# Altium schematic symbol library fpga_xilinx_ultrascale.SchLib: 7 symbols (part 3 of 6)
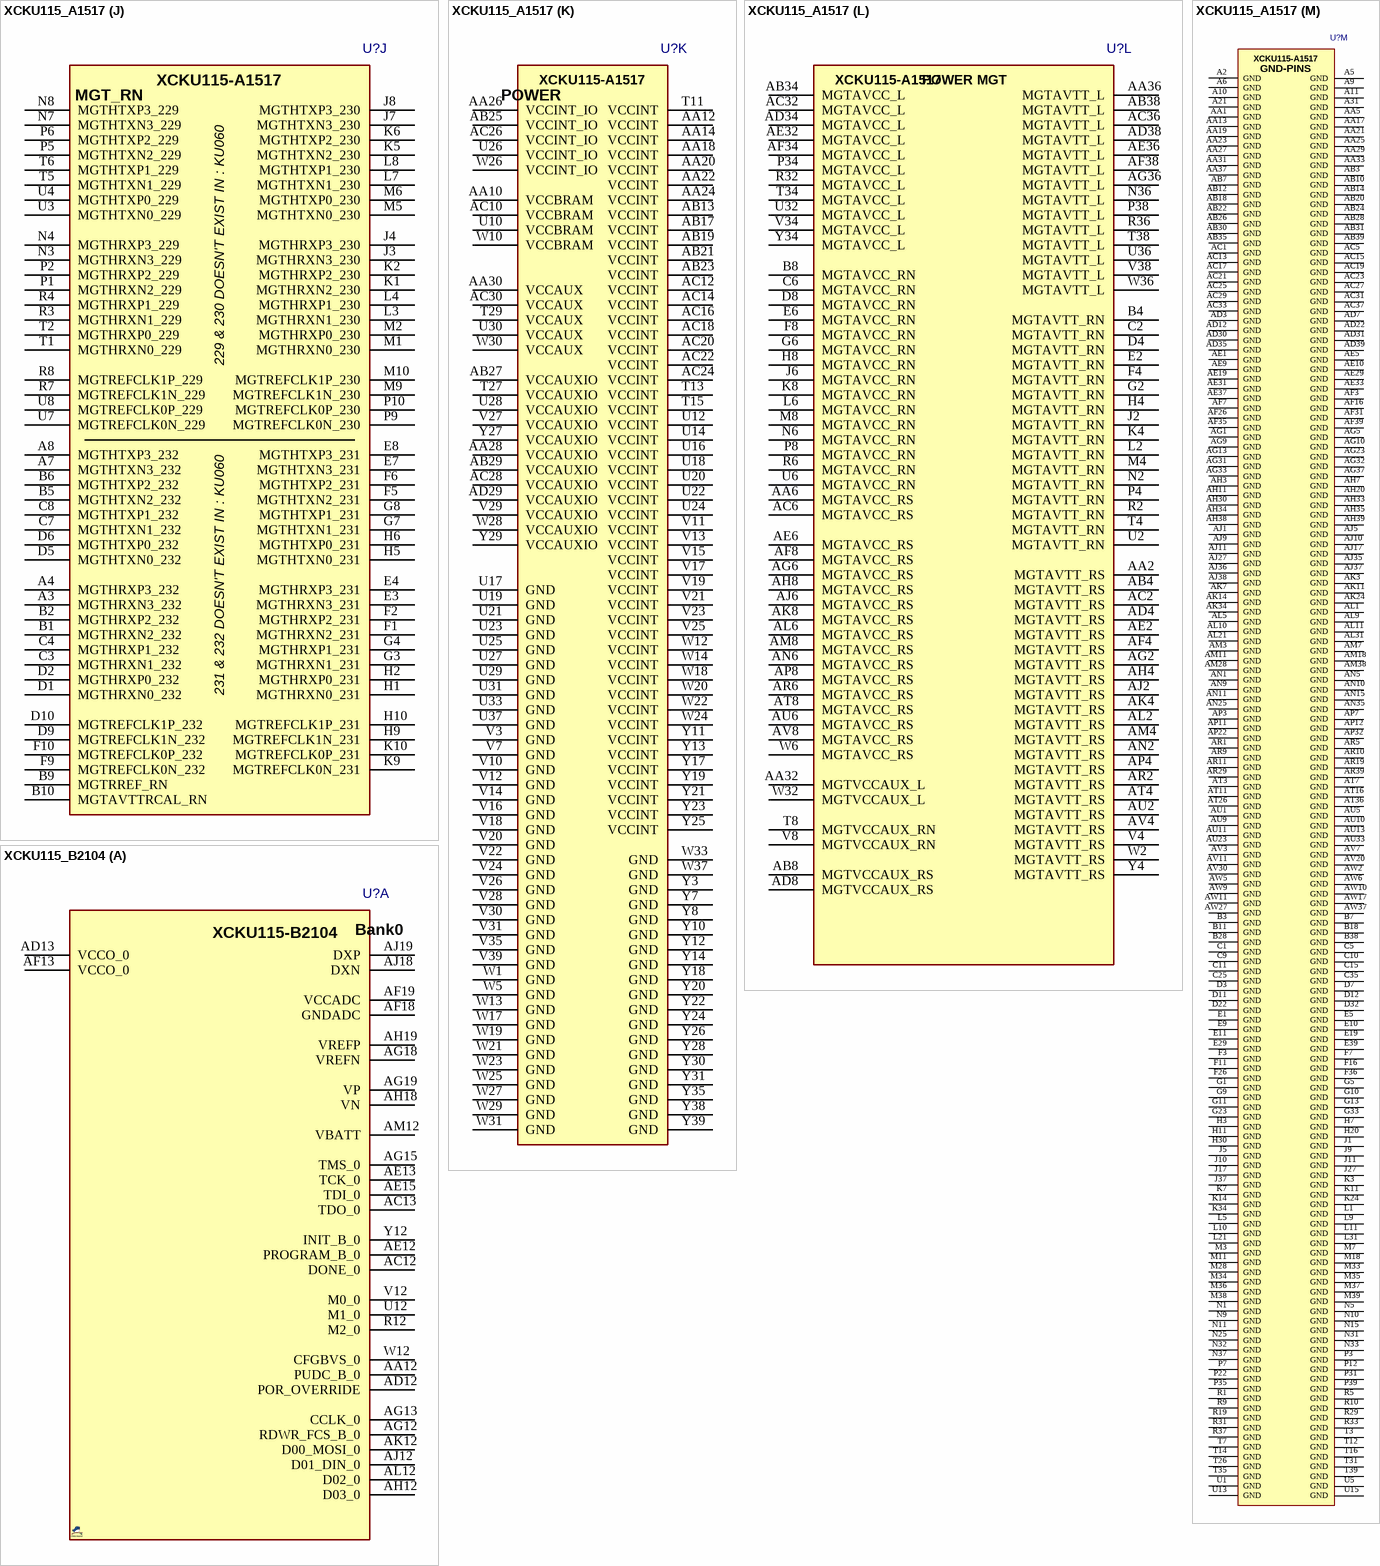
[diagram p31: symbols XCKU115_A1517 to XCKU115_B2104]

## XCKU115_A1517
designator U?  (value not drawn)
Xilinx FPGA Ultrascale, Kintex KU115, A1517; MANF_P#: XCKU115-2FLVA1517I; ASSEMBLY: ASSEMBLY; MANF: XILINX; VALUE: XCKU115_A1517; PACKAGE: FLVA1517
footprint BGA100_1517
part A pins: AA9 PROGRAM_B_0, AA11 TCK_0, AA15 VN, AA16 VREFP, AB9 RDWR_FCS_B_0, AB11 VCCO_0, AB15 DXN, AB16 DXP, AC9 D02_0, AC11 CCLK_0, AD9 D03_0, AD10 D01_DIN_0, AD11 VCCO_0, AE11 D00_MOSI_0, AF11 DONE_0, AG11 VBATT, P11 PUDC_B_0, R11 INIT_B_0, T9 M0_0, T10 TDO_0, U9 M1_0, U11 TDI_0, V9 M2_0, W9 CFGBVS_0, W11 TMS_0, W15 GNDADC, W16 VCCADC, Y9 POR_OVERRIDE, Y15 VREFN, Y16 VP
part B pins: AD28 VREF_24, AE28 IO_L24P_T3U_N10_24, AE30 IO_L21P_T3L_N4_AD8P_24, AF28 IO_L24N_T3U_N11_24, AF29 IO_L23P_T3U_N8_24, AF30 IO_L21N_T3L_N5_AD8N_24, AG28 VCCO_24, AG29 IO_L23N_T3U_N9_24, AG30 IO_T3U_N12_24, AH28 IO_L22P_T3U_N6_DBC_AD0P_24, AH29 IO_L19P_T3L_N0_DBC_AD9P_24, AH31 IO_L20P_T3L_N2_AD1P_24, AH32 IO_L20N_T3L_N3_AD1N_24, AJ28 IO_L22N_T3U_N7_DBC_AD0N_24, AJ29 IO_L19N_T3L_N1_DBC_AD9N_24, AJ30 IO_L15P_T2L_N4_AD11P_24, AJ31 IO_L17P_T2U_N8_AD10P_24, AJ32 VCCO_24, AJ33 IO_L18P_T2U_N10_AD2P_24, AJ34 VREF_25, AJ39 IO_T3U_N12_25, AK29 VCCO_24, AK30 IO_L15N_T2L_N5_AD11N_24, AK31 IO_L17N_T2U_N9_AD10N_24, AK32 IO_L16P_T2U_N6_QBC_AD3P_24, AK33 IO_L18N_T2U_N11_AD2N_24, AK35 IO_L23P_T3U_N8_25, AK36 IO_L23N_T3U_N9_25, AK37 IO_L22P_T3U_N6_DBC_AD0P_25, AK38 IO_L22N_T3U_N7_DBC_AD0N_25, AK39 VCCO_25, AL29 IO_L14P_T2L_N2_GC_24, AL30 IO_L13P_T2L_N0_GC_QBC_24, AL32 IO_L16N_T2U_N7_QBC_AD3N_24, AL33 IO_T2U_N12_24, AL34 IO_L21P_T3L_N4_AD8P_25, AL35 IO_L21N_T3L_N5_AD8N_25, AL36 VCCO_25, AL37 IO_L20P_T3L_N2_AD1P_25, AL38 IO_L20N_T3L_N3_AD1N_25, AL39 IO_L24P_T3U_N10_25, AM29 IO_L14N_T2L_N3_GC_24, AM30 IO_L13N_T2L_N1_GC_QBC_24, AM31 IO_L12P_T1U_N10_GC_24, AM32 IO_L11P_T1U_N8_GC_24, AM33 VCCO_24, AM34 IO_L17P_T2U_N8_AD10P_25, AM35 IO_L17N_T2U_N9_AD10N_25, AM36 IO_L19P_T3L_N0_DBC_AD9P_25, AM37 IO_L19N_T3L_N1_DBC_AD9N_25, AM39 IO_L24N_T3U_N11_25, AN29 IO_T1U_N12_24, AN30 VCCO_24, AN31 IO_L12N_T1U_N11_GC_24, AN32 IO_L11N_T1U_N9_GC_24, AN33 IO_L7P_T1L_N0_QBC_AD13P_24, AN34 IO_L15P_T2L_N4_AD11P_25, AN36 IO_L14P_T2L_N2_GC_25, AN37 IO_L14N_T2L_N3_GC_25, AN38 IO_L16P_T2U_N6_QBC_AD3P_25, AN39 IO_L18P_T2U_N10_AD2P_25, AP29 IO_L10P_T1U_N6_QBC_AD4P_24, AP30 IO_L8P_T1L_N2_AD5P_24, AP31 IO_L8N_T1L_N3_AD5N_24, AP33 IO_L7N_T1L_N1_QBC_AD13N_24, AP34 IO_L15N_T2L_N5_AD11N_25, AP35 IO_T2U_N12_25, AP36 IO_L13P_T2L_N0_GC_QBC_25, AP37 VCCO_25, AP38 IO_L16N_T2U_N7_QBC_AD3N_25, AP39 IO_L18N_T2U_N11_AD2N_25, AR30 IO_L10N_T1U_N7_QBC_AD4N_24, AR31 IO_L9P_T1L_N4_AD12P_24, AR32 IO_L9N_T1L_N5_AD12N_24, AR33 IO_L5P_T0U_N8_AD14P_25, AR34 VCCO_25, AR35 IO_T0U_N12_VRP_25, AR36 IO_L13N_T2L_N1_GC_QBC_25, AR37 IO_L11P_T1U_N8_GC_25, AR38 IO_L12P_T1U_N10_GC_25, AT29 IO_L6P_T0U_N10_AD6P_24, AT30 IO_L6N_T0U_N11_AD6N_24, AT31 VCCO_24, AT32 IO_T0U_N12_VRP_24, AT33 IO_L5N_T0U_N9_AD14N_25, AT34 IO_L3P_T0L_N4_AD15P_25, AT35 IO_L6P_T0U_N10_AD6P_25, AT37 IO_L11N_T1U_N9_GC_25, AT38 IO_L12N_T1U_N11_GC_25, AT39 IO_L10P_T1U_N6_QBC_AD4P_25, AU29 IO_L4P_T0U_N6_DBC_AD7P_24, AU30 IO_L4N_T0U_N7_DBC_AD7N_24, AU31 IO_L5P_T0U_N8_AD14P_24, AU32 IO_L1P_T0L_N0_DBC_24, AU34 IO_L3N_T0L_N5_AD15N_25, AU35 IO_L6N_T0U_N11_AD6N_25, AU36 IO_L7P_T1L_N0_QBC_AD13P_25, AU37 IO_L9P_T1L_N4_AD12P_25, AU38 VCCO_25, AU39 IO_L10N_T1U_N7_QBC_AD4N_25, AV29 IO_L2P_T0L_N2_24, AV31 IO_L5N_T0U_N9_AD14N_24, AV32 IO_L1N_T0L_N1_DBC_24, AV33 IO_L2P_T0L_N2_25, AV34 IO_L2N_T0L_N3_25, AV35 VCCO_25, AV36 IO_L7N_T1L_N1_QBC_AD13N_25, AV37 IO_L9N_T1L_N5_AD12N_25, AV38 IO_L8P_T1L_N2_AD5P_25, AV39 IO_L8N_T1L_N3_AD5N_25, AW29 IO_L2N_T0L_N3_24, AW30 IO_L3P_T0L_N4_AD15P_24, AW31 IO_L3N_T0L_N5_AD15N_24, AW32 VCCO_24, AW33 IO_L1P_T0L_N0_DBC_25, AW34 IO_L1N_T0L_N1_DBC_25, AW35 IO_L4P_T0U_N6_DBC_AD7P_25, AW36 IO_L4N_T0U_N7_DBC_AD7N_25, AW38 IO_T1U_N12_25
part C pins: AD20 IO_L24P_T3U_N10_44, AD21 IO_L24N_T3U_N11_44, AD23 VREF_44, AD24 VREF_45, AD25 IO_L19P_T3L_N0_DBC_AD9P_45, AD26 IO_L21P_T3L_N4_AD8P_45, AD27 VCCO_45, AE20 IO_L22P_T3U_N6_DBC_AD0P_44, AE21 IO_L22N_T3U_N7_DBC_AD0N_44, AE22 IO_L21P_T3L_N4_AD8P_44, AE23 IO_L23P_T3U_N8_44, AE24 VCCO_45, AE25 IO_L19N_T3L_N1_DBC_AD9N_45, AE26 IO_L21N_T3L_N5_AD8N_45, AE27 IO_L23P_T3U_N8_45, AF20 IO_L20P_T3L_N2_AD1P_44, AF21 VCCO_44, AF22 IO_L21N_T3L_N5_AD8N_44, AF23 IO_L23N_T3U_N9_44, AF24 IO_L22P_T3U_N6_DBC_AD0P_45, AF25 IO_L20P_T3L_N2_AD1P_45, AF27 IO_L23N_T3U_N9_45, AG20 IO_L20N_T3L_N3_AD1N_44, AG21 IO_L19P_T3L_N0_DBC_AD9P_44, AG22 IO_L19N_T3L_N1_DBC_AD9N_44, AG24 IO_L22N_T3U_N7_DBC_AD0N_45, AG25 IO_L20N_T3L_N3_AD1N_45, AG26 IO_L24P_T3U_N10_45, AG27 IO_L24N_T3U_N11_45, AH21 IO_T3U_N12_44, AH22 IO_L18P_T2U_N10_AD2P_44, AH23 IO_L18N_T2U_N11_AD2N_44, AH24 IO_L18P_T2U_N10_AD2P_45, AH25 VCCO_45, AH26 IO_L17P_T2U_N8_AD10P_45, AH27 IO_T3U_N12_45, AJ20 IO_L16P_T2U_N6_QBC_AD3P_44, AJ21 IO_L16N_T2U_N7_QBC_AD3N_44, AJ22 VCCO_44, AJ23 IO_T2U_N12_44, AJ24 IO_L18N_T2U_N11_AD2N_45, AJ25 IO_L15P_T2L_N4_AD11P_45, AJ26 IO_L17N_T2U_N9_AD10N_45, AK20 IO_L17P_T2U_N8_AD10P_44, AK21 IO_L17N_T2U_N9_AD10N_44, AK22 IO_L14P_T2L_N2_GC_44, AK23 IO_L13P_T2L_N0_GC_QBC_44, AK25 IO_L15N_T2L_N5_AD11N_45, AK26 IO_T2U_N12_45, AK27 IO_L13P_T2L_N0_GC_QBC_45, AK28 IO_L13N_T2L_N1_GC_QBC_45, AL20 IO_L15P_T2L_N4_AD11P_44, AL22 IO_L14N_T2L_N3_GC_44, AL23 IO_L13N_T2L_N1_GC_QBC_44, AL24 IO_L16P_T2U_N6_QBC_AD3P_45, AL25 IO_L16N_T2U_N7_QBC_AD3N_45, AL26 VCCO_45, AL27 IO_L14P_T2L_N2_GC_45, AL28 IO_L14N_T2L_N3_GC_45, AM20 IO_L15N_T2L_N5_AD11N_44, AM21 IO_L12P_T1U_N10_GC_44, AM22 IO_L11P_T1U_N8_GC_44, AM23 VCCO_44, AM24 IO_L8P_T1L_N2_AD5P_45, AM25 IO_L8N_T1L_N3_AD5N_45, AM26 IO_L12P_T1U_N10_GC_45, AM27 IO_L11P_T1U_N8_GC_45, AN20 VCCO_44, AN21 IO_L12N_T1U_N11_GC_44, AN22 IO_L11N_T1U_N9_GC_44, AN23 IO_L9P_T1L_N4_AD12P_44, AN24 IO_L7P_T1L_N0_QBC_AD13P_44, AN26 IO_L12N_T1U_N11_GC_45, AN27 IO_L11N_T1U_N9_GC_45, AN28 IO_L9P_T1L_N4_AD12P_45, AP20 IO_T1U_N12_44, AP21 IO_L10P_T1U_N6_QBC_AD4P_44, AP23 IO_L9N_T1L_N5_AD12N_44, AP24 IO_L7N_T1L_N1_QBC_AD13N_44, AP25 IO_L10P_T1U_N6_QBC_AD4P_45, AP26 IO_T1U_N12_45, AP27 VCCO_45, AP28 IO_L9N_T1L_N5_AD12N_45, AR21 IO_L10N_T1U_N7_QBC_AD4N_44, AR22 IO_L8P_T1L_N2_AD5P_44, AR23 IO_L8N_T1L_N3_AD5N_44, AR24 VCCO_44, AR25 IO_L10N_T1U_N7_QBC_AD4N_45, AR26 IO_L7P_T1L_N0_QBC_AD13P_45, AR27 IO_L7N_T1L_N1_QBC_AD13N_45, AR28 IO_L5P_T0U_N8_AD14P_45, AT21 VCCO_44, AT22 IO_L6P_T0U_N10_AD6P_44, AT23 IO_L5P_T0U_N8_AD14P_44, AT24 IO_L5N_T0U_N9_AD14N_44, AT25 IO_T0U_N12_VRP_45, AT27 IO_L3P_T0L_N4_AD15P_45, AT28 IO_L5N_T0U_N9_AD14N_45, AU21 IO_L4P_T0U_N6_DBC_AD7P_44, AU22 IO_L6N_T0U_N11_AD6N_44, AU24 IO_T0U_N12_VRP_44, AU25 IO_L4P_T0U_N6_DBC_AD7P_45, AU26 IO_L4N_T0U_N7_DBC_AD7N_45, AU27 IO_L3N_T0L_N5_AD15N_45, AU28 VCCO_45, AV21 IO_L2P_T0L_N2_44, AV22 IO_L4N_T0U_N7_DBC_AD7N_44, AV23 IO_L3P_T0L_N4_AD15P_44, AV24 IO_L1P_T0L_N0_DBC_44, AV25 VCCO_45, AV26 IO_L6P_T0U_N10_AD6P_45, AV27 IO_L6N_T0U_N11_AD6N_45, AV28 IO_L1P_T0L_N0_DBC_45, AW21 IO_L2N_T0L_N3_44, AW22 VCCO_44, AW23 IO_L3N_T0L_N5_AD15N_44, AW24 IO_L1N_T0L_N1_DBC_44, AW25 IO_L2P_T0L_N2_45, AW26 IO_L2N_T0L_N3_45, AW28 IO_L1N_T0L_N1_DBC_45
part D pins: A28 IO_L23P_T3U_N8_47, A29 IO_L23N_T3U_N9_47, A30 IO_L19N_T3L_N1_DBC_AD9N_47, A32 IO_L22N_T3U_N7_DBC_AD0N_47, A33 IO_T3U_N12_46, A34 IO_L24N_T3U_N11_46, A35 IO_L22N_T3U_N7_DBC_AD0N_46, A36 VCCO_46, A37 IO_L17P_T2U_N8_AD10P_46, A38 IO_L17N_T2U_N9_AD10N_46, B29 IO_T3U_N12_47, B30 IO_L19P_T3L_N0_DBC_AD9P_47, B31 IO_L24N_T3U_N11_47, B32 IO_L22P_T3U_N6_DBC_AD0P_47, B33 VCCO_47, B34 IO_L24P_T3U_N10_46, B35 IO_L22P_T3U_N6_DBC_AD0P_46, B36 IO_L20N_T3L_N3_AD1N_46, B37 IO_L18N_T2U_N11_AD2N_46, B39 IO_L16N_T2U_N7_QBC_AD3N_46, C29 IO_L21N_T3L_N5_AD8N_47, C30 VCCO_47, C31 IO_L24P_T3U_N10_47, C32 IO_L20P_T3L_N2_AD1P_47, C33 IO_L20N_T3L_N3_AD1N_47, C34 IO_L23N_T3U_N9_46, C36 IO_L20P_T3L_N2_AD1P_46, C37 IO_L18P_T2U_N10_AD2P_46, C38 IO_L16P_T2U_N6_QBC_AD3P_46, C39 IO_L15N_T2L_N5_AD11N_46, D29 IO_L21P_T3L_N4_AD8P_47, D30 IO_L18N_T2U_N11_AD2N_47, D31 IO_L16N_T2U_N7_QBC_AD3N_47, D33 IO_T2U_N12_47, D34 IO_L23P_T3U_N8_46, D35 IO_L21N_T3L_N5_AD8N_46, D36 IO_L19N_T3L_N1_DBC_AD9N_46, D37 VCCO_46, D38 IO_L14N_T2L_N3_GC_46, D39 IO_L15P_T2L_N4_AD11P_46, E30 IO_L18P_T2U_N10_AD2P_47, E31 IO_L16P_T2U_N6_QBC_AD3P_47, E32 IO_L14N_T2L_N3_GC_47, E33 IO_L13N_T2L_N1_GC_QBC_47, E34 VCCO_46, E35 IO_L21P_T3L_N4_AD8P_46, E36 IO_L19P_T3L_N0_DBC_AD9P_46, E37 IO_L14P_T2L_N2_GC_46, E38 IO_L13N_T2L_N1_GC_QBC_46, F29 IO_L17N_T2U_N9_AD10N_47, F30 IO_L15N_T2L_N5_AD11N_47, F31 VCCO_47, F32 IO_L14P_T2L_N2_GC_47, F33 IO_L13P_T2L_N0_GC_QBC_47, F34 IO_T1U_N12_46, F35 IO_L7N_T1L_N1_QBC_AD13N_46, F37 IO_L12N_T1U_N11_GC_46, F38 IO_L13P_T2L_N0_GC_QBC_46, F39 IO_T2U_N12_46, G29 IO_L17P_T2U_N8_AD10P_47, G30 IO_L15P_T2L_N4_AD11P_47, G31 IO_L11N_T1U_N9_GC_47, G32 IO_L12N_T1U_N11_GC_47, G34 IO_L9N_T1L_N5_AD12N_46, G35 IO_L7P_T1L_N0_QBC_AD13P_46, G36 IO_L11N_T1U_N9_GC_46, G37 IO_L12P_T1U_N10_GC_46, G38 VCCO_46, G39 IO_L8N_T1L_N3_AD5N_46, H29 IO_L9N_T1L_N5_AD12N_47, H31 IO_L11P_T1U_N8_GC_47, H32 IO_L12P_T1U_N10_GC_47, H33 IO_L8N_T1L_N3_AD5N_47, H34 IO_L9P_T1L_N4_AD12P_46, H35 VCCO_46, H36 IO_L11P_T1U_N8_GC_46, H37 IO_L10P_T1U_N6_QBC_AD4P_46, H38 IO_L10N_T1U_N7_QBC_AD4N_46, H39 IO_L8P_T1L_N2_AD5P_46, J29 IO_L9P_T1L_N4_AD12P_47, J30 IO_L7P_T1L_N0_QBC_AD13P_47, J31 IO_L7N_T1L_N1_QBC_AD13N_47, J32 VCCO_47, J33 IO_L8P_T1L_N2_AD5P_47, J34 IO_L5P_T0U_N8_AD14P_46, J35 IO_L5N_T0U_N9_AD14N_46, J36 IO_L1N_T0L_N1_DBC_46, J38 IO_L2P_T0L_N2_46, J39 IO_L2N_T0L_N3_46, K29 VCCO_47, K30 IO_T1U_N12_47, K31 IO_L10P_T1U_N6_QBC_AD4P_47, K32 IO_L10N_T1U_N7_QBC_AD4N_47, K33 IO_T0U_N12_VRP_47, K35 IO_L3N_T0L_N5_AD15N_46, K36 IO_L1P_T0L_N0_DBC_46, K37 IO_L6N_T0U_N11_AD6N_46, K38 IO_L4N_T0U_N7_DBC_AD7N_46, K39 VCCO_46, L29 IO_L5N_T0U_N9_AD14N_47, L30 IO_L6N_T0U_N11_AD6N_47, L32 IO_L3P_T0L_N4_AD15P_47, L33 IO_L3N_T0L_N5_AD15N_47, L34 VREF_46, L35 IO_L3P_T0L_N4_AD15P_46, L36 VCCO_46, L37 IO_L6P_T0U_N10_AD6P_46, L38 IO_L4P_T0U_N6_DBC_AD7P_46, L39 IO_T0U_N12_VRP_46, M29 IO_L5P_T0U_N8_AD14P_47, M30 IO_L6P_T0U_N10_AD6P_47, M31 IO_L1P_T0L_N0_DBC_47, M32 IO_L1N_T0L_N1_DBC_47, N29 IO_L4N_T0U_N7_DBC_AD7N_47, N30 VCCO_47, P29 IO_L4P_T0U_N6_DBC_AD7P_47, P30 IO_L2N_T0L_N3_47, R30 IO_L2P_T0L_N2_47, T30 VREF_47
part E pins: A12 IO_L19N_T3L_N1_DBC_AD9N_66, A13 IO_L19P_T3L_N0_DBC_AD9P_66, A14 IO_L21N_T3L_N5_AD8N_66, A15 IO_L21P_T3L_N4_AD8P_66, A16 VCCO_66, A25 IO_L24N_T3U_N11_48, A26 VCCO_48, A27 IO_T3U_N12_48, B12 IO_L22N_T3U_N7_DBC_AD0N_66, B13 VCCO_66, B14 IO_L24N_T3U_N11_66, B15 IO_L23N_T3U_N9_66, B16 IO_L23P_T3U_N8_66, B25 IO_L24P_T3U_N10_48, B26 IO_L23P_T3U_N8_48, B27 IO_L23N_T3U_N9_48, C12 IO_L22P_T3U_N6_DBC_AD0P_66, C13 IO_L20N_T3L_N3_AD1N_66, C14 IO_L24P_T3U_N10_66, C16 IO_T3U_N12_66, C26 IO_L21P_T3L_N4_AD8P_48, C27 IO_L21N_T3L_N5_AD8N_48, C28 IO_L19N_T3L_N1_DBC_AD9N_48, D13 IO_L20P_T3L_N2_AD1P_66, D14 IO_L15N_T2L_N5_AD11N_66, D15 IO_L15P_T2L_N4_AD11P_66, D16 IO_L17N_T2U_N9_AD10N_66, D25 IO_L22P_T3U_N6_DBC_AD0P_48, D26 IO_L22N_T3U_N7_DBC_AD0N_48, D27 VCCO_48, D28 IO_L19P_T3L_N0_DBC_AD9P_48, E12 IO_L18N_T2U_N11_AD2N_66, E13 IO_L18P_T2U_N10_AD2P_66, E14 VCCO_66, E15 IO_L13N_T2L_N1_GC_QBC_66, E16 IO_L17P_T2U_N8_AD10P_66, E25 IO_L20P_T3L_N2_AD1P_48, E26 IO_L20N_T3L_N3_AD1N_48, E27 IO_L15N_T2L_N5_AD11N_48, E28 IO_L17N_T2U_N9_AD10N_48, F12 IO_L16N_T2U_N7_QBC_AD3N_66, F13 IO_L16P_T2U_N6_QBC_AD3P_66, F14 IO_L14N_T2L_N3_GC_66, F15 IO_L13P_T2L_N0_GC_QBC_66, F25 IO_L16N_T2U_N7_QBC_AD3N_48, F27 IO_L15P_T2L_N4_AD11P_48, F28 IO_L17P_T2U_N8_AD10P_48, G12 IO_T2U_N12_66, G14 IO_L14P_T2L_N2_GC_66, G15 IO_L11N_T1U_N9_GC_66, G16 IO_L11P_T1U_N8_GC_66, G25 IO_L16P_T2U_N6_QBC_AD3P_48, G26 IO_L18P_T2U_N10_AD2P_48, G27 IO_L18N_T2U_N11_AD2N_48, G28 VCCO_48, H12 IO_T1U_N12_66, H13 IO_L7N_T1L_N1_QBC_AD13N_66, H14 IO_L12N_T1U_N11_GC_66, H15 VCCO_66, H25 VCCO_48, H26 IO_L14N_T2L_N3_GC_48, H27 IO_L13P_T2L_N0_GC_QBC_48, H28 IO_L13N_T2L_N1_GC_QBC_48, J12 VCCO_66, J13 IO_L7P_T1L_N0_QBC_AD13P_66, J14 IO_L12P_T1U_N10_GC_66, J15 IO_L9N_T1L_N5_AD12N_66, J25 IO_T2U_N12_48, J26 IO_L14P_T2L_N2_GC_48, J28 IO_L11N_T1U_N9_GC_48, K12 IO_L10N_T1U_N7_QBC_AD4N_66, K13 IO_L10P_T1U_N6_QBC_AD4P_66, K15 IO_L9P_T1L_N4_AD12P_66, K25 IO_L10N_T1U_N7_QBC_AD4N_48, K26 IO_L12P_T1U_N10_GC_48, K27 IO_L12N_T1U_N11_GC_48, K28 IO_L11P_T1U_N8_GC_48, L12 IO_L8N_T1L_N3_AD5N_66, L13 IO_L8P_T1L_N2_AD5P_66, L14 IO_T0U_N12_VRP_66, L15 IO_L5N_T0U_N9_AD14N_66, L25 IO_L10P_T1U_N6_QBC_AD4P_48, L26 VCCO_48, L27 IO_L9N_T1L_N5_AD12N_48, L28 IO_T1U_N12_48, M12 IO_L4N_T0U_N7_DBC_AD7N_66, M13 VCCO_66, M14 IO_L3N_T0L_N5_AD15N_66, M15 IO_L5P_T0U_N8_AD14P_66, M24 IO_L8N_T1L_N3_AD5N_48, M25 IO_L7P_T1L_N0_QBC_AD13P_48, M26 IO_L7N_T1L_N1_QBC_AD13N_48, M27 IO_L9P_T1L_N4_AD12P_48, N12 IO_L4P_T0U_N6_DBC_AD7P_66, N13 IO_L1N_T0L_N1_DBC_66, N14 IO_L3P_T0L_N4_AD15P_66, N24 IO_L8P_T1L_N2_AD5P_48, N26 IO_L6N_T0U_N11_AD6N_48, N27 IO_T0U_N12_VRP_48, N28 IO_L1N_T0L_N1_DBC_48, P13 IO_L1P_T0L_N0_DBC_66, P14 IO_L6N_T0U_N11_AD6N_66, P15 IO_L6P_T0U_N10_AD6P_66, P24 IO_L4P_T0U_N6_DBC_AD7P_48, P25 IO_L4N_T0U_N7_DBC_AD7N_48, P26 IO_L6P_T0U_N10_AD6P_48, P27 VCCO_48, P28 IO_L1P_T0L_N0_DBC_48, R12 IO_L2N_T0L_N3_66, R13 IO_L2P_T0L_N2_66, R14 VCCO_66, R15 VREF_66, R24 VCCO_48, R25 IO_L2N_T0L_N3_48, R26 IO_L3P_T0L_N4_AD15P_48, R27 IO_L3N_T0L_N5_AD15N_48, R28 IO_L5N_T0U_N9_AD14N_48, T24 VREF_48, T25 IO_L2P_T0L_N2_48, T28 IO_L5P_T0U_N8_AD14P_48
part F pins: A17 IO_L24N_T3U_N11_67, A18 IO_L24P_T3U_N10_67, A19 IO_L21N_T3L_N5_AD8N_67, A20 IO_L23N_T3U_N9_67, A22 IO_L23N_T3U_N9_68, A23 IO_T3U_N12_68, A24 IO_L21N_T3L_N5_AD8N_68, B17 IO_L22N_T3U_N7_DBC_AD0N_67, B19 IO_L21P_T3L_N4_AD8P_67, B20 IO_L23P_T3U_N8_67, B21 IO_L23P_T3U_N8_68, B22 IO_L22N_T3U_N7_DBC_AD0N_68, B23 VCCO_68, B24 IO_L21P_T3L_N4_AD8P_68, C17 IO_L22P_T3U_N6_DBC_AD0P_67, C18 IO_L20N_T3L_N3_AD1N_67, C19 IO_L19N_T3L_N1_DBC_AD9N_67, C20 VCCO_67, C21 IO_L24N_T3U_N11_68, C22 IO_L22P_T3U_N6_DBC_AD0P_68, C23 IO_L20N_T3L_N3_AD1N_68, C24 IO_L19N_T3L_N1_DBC_AD9N_68, D17 VCCO_67, D18 IO_L20P_T3L_N2_AD1P_67, D19 IO_L19P_T3L_N0_DBC_AD9P_67, D20 IO_T3U_N12_67, D21 IO_L24P_T3U_N10_68, D23 IO_L20P_T3L_N2_AD1P_68, D24 IO_L19P_T3L_N0_DBC_AD9P_68, E17 IO_L16N_T2U_N7_QBC_AD3N_67, E18 IO_L18N_T2U_N11_AD2N_67, E20 IO_L17N_T2U_N9_AD10N_67, E21 IO_L17P_T2U_N8_AD10P_68, E22 IO_L17N_T2U_N9_AD10N_68, E23 IO_L18N_T2U_N11_AD2N_68, E24 VCCO_68, F17 IO_L16P_T2U_N6_QBC_AD3P_67, F18 IO_L18P_T2U_N10_AD2P_67, F19 IO_L15N_T2L_N5_AD11N_67, F20 IO_L17P_T2U_N8_AD10P_67, F21 VCCO_68, F22 IO_T2U_N12_68, F23 IO_L18P_T2U_N10_AD2P_68, F24 IO_L16N_T2U_N7_QBC_AD3N_68, G17 IO_T2U_N12_67, G18 VCCO_67, G19 IO_L13N_T2L_N1_GC_QBC_67, G20 IO_L15P_T2L_N4_AD11P_67, G21 IO_L15P_T2L_N4_AD11P_68, G22 IO_L15N_T2L_N5_AD11N_68, G24 IO_L16P_T2U_N6_QBC_AD3P_68, H16 IO_T1U_N12_67, H17 IO_L14N_T2L_N3_GC_67, H18 IO_L14P_T2L_N2_GC_67, H19 IO_L13P_T2L_N0_GC_QBC_67, H21 IO_L13P_T2L_N0_GC_QBC_68, H22 IO_L13N_T2L_N1_GC_QBC_68, H23 IO_L14P_T2L_N2_GC_68, H24 IO_L14N_T2L_N3_GC_68, J16 IO_L10N_T1U_N7_QBC_AD4N_67, J18 IO_L12N_T1U_N11_GC_67, J19 IO_L11N_T1U_N9_GC_67, J20 IO_L11P_T1U_N8_GC_67, J21 IO_L7N_T1L_N1_QBC_AD13N_68, J22 VCCO_68, J23 IO_L12P_T1U_N10_GC_68, J24 IO_L12N_T1U_N11_GC_68, K16 IO_L10P_T1U_N6_QBC_AD4P_67, K17 IO_L7N_T1L_N1_QBC_AD13N_67, K18 IO_L12P_T1U_N10_GC_67, K19 VCCO_67, K20 IO_L9N_T1L_N5_AD12N_68, K21 IO_L7P_T1L_N0_QBC_AD13P_68, K22 IO_L11P_T1U_N8_GC_68, K23 IO_L11N_T1U_N9_GC_68, L16 VCCO_67, L17 IO_L7P_T1L_N0_QBC_AD13P_67, L18 IO_L9N_T1L_N5_AD12N_67, L19 IO_L9P_T1L_N4_AD12P_67, L20 IO_L9P_T1L_N4_AD12P_68, L22 IO_T1U_N12_68, L23 IO_L8P_T1L_N2_AD5P_68, L24 IO_L8N_T1L_N3_AD5N_68, M16 IO_L8N_T1L_N3_AD5N_67, M17 IO_L8P_T1L_N2_AD5P_67, M19 IO_T0U_N12_VRP_67, M20 IO_L10P_T1U_N6_QBC_AD4P_68, M21 IO_L10N_T1U_N7_QBC_AD4N_68, M22 IO_T0U_N12_VRP_68, M23 VCCO_68, N16 IO_L3N_T0L_N5_AD15N_67, N17 IO_L3P_T0L_N4_AD15P_67, N18 IO_L5N_T0U_N9_AD14N_67, N19 IO_L5P_T0U_N8_AD14P_67, N20 VCCO_68, N21 IO_L4P_T0U_N6_DBC_AD7P_68, N22 IO_L4N_T0U_N7_DBC_AD7N_68, N23 IO_L2N_T0L_N3_68, P16 IO_L2N_T0L_N3_67, P17 VCCO_67, P18 IO_L1N_T0L_N1_DBC_67, P19 IO_L1P_T0L_N0_DBC_67, P20 IO_L6N_T0U_N11_AD6N_68, P21 IO_L5N_T0U_N9_AD14N_68, P23 IO_L2P_T0L_N2_68, R16 IO_L2P_T0L_N2_67, R17 IO_L6N_T0U_N11_AD6N_67, R18 IO_L6P_T0U_N10_AD6P_67, R20 IO_L6P_T0U_N10_AD6P_68, R21 IO_L5P_T0U_N8_AD14P_68, R22 IO_L3N_T0L_N5_AD15N_68, R23 IO_L1N_T0L_N1_DBC_68, T17 IO_L4N_T0U_N7_DBC_AD7N_67, T18 IO_L4P_T0U_N6_DBC_AD7P_67, T19 VREF_67, T20 VREF_68, T21 VCCO_68, T22 IO_L3P_T0L_N4_AD15P_68, T23 IO_L1P_T0L_N0_DBC_68
part G pins: AD13 IO_L24N_T3U_N11_DOUT_CSO_B_65, AD14 IO_L24P_T3U_N10_EMCCLK_65, AD15 VREF_65, AD16 IO_L21P_T3L_N4_AD8P_64, AD17 VCCO_64, AD18 IO_T3U_N12_64, AD19 VREF_64, AE12 IO_L23P_T3U_N8_I2C_SCLK_65, AE13 IO_L21P_T3L_N4_AD8P_D06_65, AE14 VCCO_65, AE15 IO_T3U_N12_PERSTN0_65, AE16 IO_L21N_T3L_N5_AD8N_64, AE17 IO_L23P_T3U_N8_64, AE18 IO_L22P_T3U_N6_DBC_AD0P_64, AF12 IO_L23N_T3U_N9_I2C_SDA_65, AF13 IO_L21N_T3L_N5_AD8N_D07_65, AF14 IO_L22P_T3U_N6_DBC_AD0P_D04_65, AF15 IO_L20P_T3L_N2_AD1P_D08_65, AF17 IO_L23N_T3U_N9_64, AF18 IO_L22N_T3U_N7_DBC_AD0N_64, AF19 IO_L24P_T3U_N10_64, AG12 IO_L19P_T3L_N0_DBC_AD9P_D10_65, AG14 IO_L22N_T3U_N7_DBC_AD0N_D05_65, AG15 IO_L20N_T3L_N3_AD1N_D09_65, AG16 IO_L19N_T3L_N1_DBC_AD9N_64, AG17 IO_L19P_T3L_N0_DBC_AD9P_64, AG18 VCCO_64, AG19 IO_L24N_T3U_N11_64, AH12 IO_L19N_T3L_N1_DBC_AD9N_D11_65, AH13 IO_L17P_T2U_N8_AD10P_D14_65, AH14 IO_L15P_T2L_N4_AD11P_A02_D18_65, AH15 VCCO_65, AH16 IO_L17N_T2U_N9_AD10N_64, AH17 IO_L17P_T2U_N8_AD10P_64, AH18 IO_L20N_T3L_N3_AD1N_64, AH19 IO_L20P_T3L_N2_AD1P_64, AJ12 VCCO_65, AJ13 IO_L17N_T2U_N9_AD10N_D15_65, AJ14 IO_L15N_T2L_N5_AD11N_A03_D19_65, AJ15 IO_L16P_T2U_N6_QBC_AD3P_A00_D16_65, AJ16 IO_L15P_T2L_N4_AD11P_64, AJ18 IO_L18N_T2U_N11_AD2N_64, AJ19 IO_L18P_T2U_N10_AD2P_64, AK12 IO_L18N_T2U_N11_AD2N_D13_65, AK13 IO_L18P_T2U_N10_AD2P_D12_65, AK15 IO_L16N_T2U_N7_QBC_AD3N_A01_D17_65, AK16 IO_L15N_T2L_N5_AD11N_64, AK17 IO_L16N_T2U_N7_QBC_AD3N_64, AK18 IO_L16P_T2U_N6_QBC_AD3P_64, AK19 VCCO_64, AL12 IO_L13P_T2L_N0_GC_QBC_A06_D22_65, AL13 IO_L14N_T2L_N3_GC_A05_D21_65, AL14 IO_L14P_T2L_N2_GC_A04_D20_65, AL15 IO_T2U_N12_CSI_ADV_B_65, AL16 VCCO_64, AL17 IO_L13P_T2L_N0_GC_QBC_64, AL18 IO_L14N_T2L_N3_GC_64, AL19 IO_L14P_T2L_N2_GC_64, AM12 IO_L13N_T2L_N1_GC_QBC_A07_D23_65, AM13 VCCO_65, AM14 IO_L12P_T1U_N10_GC_A08_D24_65, AM15 IO_T1U_N12_PERSTN1_65, AM16 IO_T2U_N12_64, AM17 IO_L13N_T2L_N1_GC_QBC_64, AM19 IO_L12P_T1U_N10_GC_64, AN12 IO_L11N_T1U_N9_GC_A11_D27_65, AN13 IO_L11P_T1U_N8_GC_A10_D26_65, AN14 IO_L12N_T1U_N11_GC_A09_D25_65, AN16 IO_T1U_N12_64, AN17 IO_L11N_T1U_N9_GC_64, AN18 IO_L11P_T1U_N8_GC_64, AN19 IO_L12N_T1U_N11_GC_64, AP13 IO_L10N_T1U_N7_QBC_AD4N_A13_D29_65, AP14 IO_L10P_T1U_N6_QBC_AD4P_A12_D28_65, AP15 IO_L8P_T1L_N2_AD5P_A16_65, AP16 IO_L9P_T1L_N4_AD12P_64, AP17 VCCO_64, AP18 IO_L10N_T1U_N7_QBC_AD4N_64, AP19 IO_L10P_T1U_N6_QBC_AD4P_64, AR12 IO_L9P_T1L_N4_AD12P_A14_D30_65, AR13 IO_L7P_T1L_N0_QBC_AD13P_A18_65, AR14 VCCO_65, AR15 IO_L8N_T1L_N3_AD5N_A17_65, AR16 IO_L9N_T1L_N5_AD12N_64, AR17 IO_L7N_T1L_N1_QBC_AD13N_64, AR18 IO_L7P_T1L_N0_QBC_AD13P_64, AR20 IO_L8P_T1L_N2_AD5P_64, AT12 IO_L9N_T1L_N5_AD12N_A15_D31_65, AT13 IO_L7N_T1L_N1_QBC_AD13N_A19_65, AT14 IO_L6P_T0U_N10_AD6P_A20_65, AT15 IO_L4P_T0U_N6_DBC_AD7P_A24_65, AT17 IO_L5N_T0U_N9_AD14N_64, AT18 IO_L5P_T0U_N8_AD14P_64, AT19 IO_L6P_T0U_N10_AD6P_64, AT20 IO_L8N_T1L_N3_AD5N_64, AU12 IO_L5P_T0U_N8_AD14P_A22_65, AU14 IO_L6N_T0U_N11_AD6N_A21_65, AU15 IO_L4N_T0U_N7_DBC_AD7N_A25_65, AU16 IO_L3N_T0L_N5_AD15N_64, AU17 IO_L3P_T0L_N4_AD15P_64, AU18 VCCO_64, AU19 IO_L6N_T0U_N11_AD6N_64, AU20 IO_T0U_N12_64, AV12 IO_L5N_T0U_N9_AD14N_A23_65, AV13 IO_L3P_T0L_N4_AD15P_A26_65, AV14 IO_L1P_T0L_N0_DBC_RS0_65, AV15 VCCO_65, AV16 IO_L2P_T0L_N2_FOE_B_65, AV17 IO_L1N_T0L_N1_DBC_64, AV18 IO_L1P_T0L_N0_DBC_64, AV19 IO_L4P_T0U_N6_DBC_AD7P_64, AW12 VCCO_65, AW13 IO_L3N_T0L_N5_AD15N_A27_65, AW14 IO_L1N_T0L_N1_DBC_RS1_65, AW15 IO_T0U_N12_A28_65, AW16 IO_L2N_T0L_N3_FWE_FCS2_B_65, AW18 IO_L4N_T0U_N7_DBC_AD7N_64, AW19 IO_L2N_T0L_N3_64, AW20 IO_L2P_T0L_N2_64
part H pins: AA34 MGTHTXP1_127, AA35 MGTHTXN1_127, AA38 MGTHRXP1_127, AA39 MGTHRXN1_127, AB32 MGTREFCLK1P_126, AB33 MGTREFCLK1N_126, AB36 MGTHRXP0_127, AB37 MGTHRXN0_127, AC34 MGTHTXP0_127, AC35 MGTHTXN0_127, AC38 MGTHRXP3_126, AC39 MGTHRXN3_126, AD32 MGTREFCLK0P_126, AD33 MGTREFCLK0N_126, AD36 MGTHTXP3_126, AD37 MGTHTXN3_126, AE34 MGTHTXP2_126, AE35 MGTHTXN2_126, AE38 MGTHRXP2_126, AE39 MGTHRXN2_126, AF32 MGTAVTTRCAL_L, AF33 MGTRREF_L, AF36 MGTHRXP1_126, AF37 MGTHRXN1_126, AG34 MGTHTXP1_126, AG35 MGTHTXN1_126, AG38 MGTHRXP0_126, AG39 MGTHRXN0_126, AH36 MGTHTXP0_126, AH37 MGTHTXN0_126, N34 MGTHTXP3_128, N35 MGTHTXN3_128, N38 MGTHRXP3_128, N39 MGTHRXN3_128, P32 MGTREFCLK1P_128, P33 MGTREFCLK1N_128, P36 MGTHRXP2_128, P37 MGTHRXN2_128, R34 MGTHTXP2_128, R35 MGTHTXN2_128, R38 MGTHRXP1_128, R39 MGTHRXN1_128, T32 MGTREFCLK0P_128, T33 MGTREFCLK0N_128, T36 MGTHTXP1_128, T37 MGTHTXN1_128, U34 MGTHTXP0_128, U35 MGTHTXN0_128, U38 MGTHRXP0_128, U39 MGTHRXN0_128, V32 MGTREFCLK1P_127, V33 MGTREFCLK1N_127, V36 MGTHRXP3_127, V37 MGTHRXN3_127, W34 MGTHTXP3_127, W35 MGTHTXN3_127, W38 MGTHRXP2_127, W39 MGTHRXN2_127, Y32 MGTREFCLK0P_127, Y33 MGTREFCLK0N_127, Y36 MGTHTXP2_127, Y37 MGTHTXN2_127
part I pins: AA3 MGTHTXN1_228, AA4 MGTHTXP1_228, AA7 MGTREFCLK0N_228, AA8 MGTREFCLK0P_228, AB1 MGTHRXN0_228, AB2 MGTHRXP0_228, AB5 MGTHTXN0_228, AB6 MGTHTXP0_228, AC3 MGTHRXN3_227, AC4 MGTHRXP3_227, AC7 MGTREFCLK1N_227, AC8 MGTREFCLK1P_227, AD1 MGTHRXN2_227, AD2 MGTHRXP2_227, AD5 MGTHTXN3_227, AD6 MGTHTXP3_227, AE3 MGTHTXN2_227, AE4 MGTHTXP2_227, AE7 MGTREFCLK0N_227, AE8 MGTREFCLK0P_227, AF1 MGTHRXN1_227, AF2 MGTHRXP1_227, AF5 MGTHTXN1_227, AF6 MGTHTXP1_227, AF9 MGTREFCLK1N_226, AF10 MGTREFCLK1P_226, AG3 MGTHRXN0_227, AG4 MGTHRXP0_227, AG7 MGTHTXN0_227, AG8 MGTHTXP0_227, AH1 MGTHRXN3_226, AH2 MGTHRXP3_226, AH5 MGTHTXN3_226, AH6 MGTHTXP3_226, AH9 MGTREFCLK0N_226, AH10 MGTREFCLK0P_226, AJ3 MGTHRXN2_226, AJ4 MGTHRXP2_226, AJ7 MGTHTXN2_226, AJ8 MGTHTXP2_226, AK1 MGTHRXN1_226, AK2 MGTHRXP1_226, AK5 MGTHTXN1_226, AK6 MGTHTXP1_226, AK9 MGTREFCLK1N_225, AK10 MGTREFCLK1P_225, AL3 MGTHRXN0_226, AL4 MGTHRXP0_226, AL7 MGTHTXN0_226, AL8 MGTHTXP0_226, AM1 MGTHRXN3_225, AM2 MGTHRXP3_225, AM5 MGTHTXN3_225, AM6 MGTHTXP3_225, AM9 MGTREFCLK0N_225, AM10 MGTREFCLK0P_225, AN3 MGTHRXN2_225, AN4 MGTHRXP2_225, AN7 MGTHTXN2_225, AN8 MGTHTXP2_225, AP1 MGTHRXN1_225, AP2 MGTHRXP1_225, AP5 MGTHTXN1_225, AP6 MGTHTXP1_225, AP9 MGTREFCLK1N_224, AP10 MGTREFCLK1P_224, AR3 MGTHRXN0_225, AR4 MGTHRXP0_225, AR7 MGTHTXN0_225, AR8 MGTHTXP0_225, AT1 MGTHRXN3_224, AT2 MGTHRXP3_224, AT5 MGTHTXN3_224, AT6 MGTHTXP3_224, AT9 MGTREFCLK0N_224, AT10 MGTREFCLK0P_224, AU3 MGTHRXN2_224, AU4 MGTHRXP2_224, AU7 MGTHTXN2_224, AU8 MGTHTXP2_224, AV1 MGTHRXN1_224, AV2 MGTHRXP1_224, AV5 MGTHTXN1_224, AV6 MGTHTXP1_224, AV9 MGTRREF_RS, AV10 MGTAVTTRCAL_RS, AW3 MGTHRXN0_224, AW4 MGTHRXP0_224, AW7 MGTHTXN0_224, AW8 MGTHTXP0_224, V1 MGTHRXN3_228, V2 MGTHRXP3_228, V5 MGTHTXN3_228, V6 MGTHTXP3_228, W3 MGTHRXN2_228, W4 MGTHRXP2_228, W7 MGTREFCLK1N_228, W8 MGTREFCLK1P_228, Y1 MGTHRXN1_228, Y2 MGTHRXP1_228, Y5 MGTHTXN2_228, Y6 MGTHTXP2_228
part J pins: A3 MGTHRXN3_232, A4 MGTHRXP3_232, A7 MGTHTXN3_232, A8 MGTHTXP3_232, B1 MGTHRXN2_232, B2 MGTHRXP2_232, B5 MGTHTXN2_232, B6 MGTHTXP2_232, B9 MGTRREF_RN, B10 MGTAVTTRCAL_RN, C3 MGTHRXN1_232, C4 MGTHRXP1_232, C7 MGTHTXN1_232, C8 MGTHTXP1_232, D1 MGTHRXN0_232, D2 MGTHRXP0_232, D5 MGTHTXN0_232, D6 MGTHTXP0_232, D9 MGTREFCLK1N_232, D10 MGTREFCLK1P_232, E3 MGTHRXN3_231, E4 MGTHRXP3_231, E7 MGTHTXN3_231, E8 MGTHTXP3_231, F1 MGTHRXN2_231, F2 MGTHRXP2_231, F5 MGTHTXN2_231, F6 MGTHTXP2_231, F9 MGTREFCLK0N_232, F10 MGTREFCLK0P_232, G3 MGTHRXN1_231, G4 MGTHRXP1_231, G7 MGTHTXN1_231, G8 MGTHTXP1_231, H1 MGTHRXN0_231, H2 MGTHRXP0_231, H5 MGTHTXN0_231, H6 MGTHTXP0_231, H9 MGTREFCLK1N_231, H10 MGTREFCLK1P_231, J3 MGTHRXN3_230, J4 MGTHRXP3_230, J7 MGTHTXN3_230, J8 MGTHTXP3_230, K1 MGTHRXN2_230, K2 MGTHRXP2_230, K5 MGTHTXN2_230, K6 MGTHTXP2_230, K9 MGTREFCLK0N_231, K10 MGTREFCLK0P_231, L3 MGTHRXN1_230, L4 MGTHRXP1_230, L7 MGTHTXN1_230, L8 MGTHTXP1_230, M1 MGTHRXN0_230, M2 MGTHRXP0_230, M5 MGTHTXN0_230, M6 MGTHTXP0_230, M9 MGTREFCLK1N_230, M10 MGTREFCLK1P_230, N3 MGTHRXN3_229, N4 MGTHRXP3_229, N7 MGTHTXN3_229, N8 MGTHTXP3_229, P1 MGTHRXN2_229, P2 MGTHRXP2_229, P5 MGTHTXN2_229, P6 MGTHTXP2_229, P9 MGTREFCLK0N_230, P10 MGTREFCLK0P_230, R3 MGTHRXN1_229, R4 MGTHRXP1_229, R7 MGTREFCLK1N_229, R8 MGTREFCLK1P_229, T1 MGTHRXN0_229, T2 MGTHRXP0_229, T5 MGTHTXN1_229, T6 MGTHTXP1_229, U3 MGTHTXN0_229, U4 MGTHTXP0_229, U7 MGTREFCLK0N_229, U8 MGTREFCLK0P_229
part K pins: AA10 VCCBRAM, AA12 VCCINT, AA14 VCCINT, AA18 VCCINT, AA20 VCCINT, AA22 VCCINT, AA24 VCCINT, AA26 VCCINT_IO, AA28 VCCAUXIO, AA30 VCCAUX, AB13 VCCINT, AB17 VCCINT, AB19 VCCINT, AB21 VCCINT, AB23 VCCINT, AB25 VCCINT_IO, AB27 VCCAUXIO, AB29 VCCAUXIO, AC10 VCCBRAM, AC12 VCCINT, AC14 VCCINT, AC16 VCCINT, AC18 VCCINT, AC20 VCCINT, AC22 VCCINT, AC24 VCCINT, AC26 VCCINT_IO, AC28 VCCAUXIO, AC30 VCCAUX, AD29 VCCAUXIO, T11 VCCINT, T13 VCCINT, T15 VCCINT, T27 VCCAUXIO, T29 VCCAUX, U10 VCCBRAM, U12 VCCINT, U14 VCCINT, U16 VCCINT, U17 GND, U18 VCCINT, U19 GND, U20 VCCINT, U21 GND, U22 VCCINT, U23 GND, U24 VCCINT, U25 GND, U26 VCCINT_IO, U27 GND, U28 VCCAUXIO, U29 GND, U30 VCCAUX, U31 GND, U33 GND, U37 GND, V3 GND, V7 GND, V10 GND, V11 VCCINT, V12 GND, V13 VCCINT, V14 GND, V15 VCCINT, V16 GND, V17 VCCINT, V18 GND, V19 VCCINT, V20 GND, V21 VCCINT, V22 GND, V23 VCCINT, V24 GND, V25 VCCINT, V26 GND, V27 VCCAUXIO, V28 GND, V29 VCCAUXIO, V30 GND, V31 GND, V35 GND, V39 GND, W1 GND, W5 GND, W10 VCCBRAM, W12 VCCINT, W13 GND, W14 VCCINT, W17 GND, W18 VCCINT, W19 GND, W20 VCCINT, W21 GND, W22 VCCINT, W23 GND, W24 VCCINT, W25 GND, W26 VCCINT_IO, W27 GND, W28 VCCAUXIO, W29 GND, W30 VCCAUX, W31 GND, W33 GND, W37 GND, Y3 GND, Y7 GND, Y8 GND, Y10 GND, Y11 VCCINT, Y12 GND, Y13 VCCINT, Y14 GND, Y17 VCCINT, Y18 GND, Y19 VCCINT, Y20 GND, Y21 VCCINT, Y22 GND, Y23 VCCINT, Y24 GND, Y25 VCCINT, Y26 GND, Y27 VCCAUXIO, Y28 GND, Y29 VCCAUXIO, Y30 GND, Y31 GND, Y35 GND, Y38 GND, Y39 GND
part L pins: AA2 MGTAVTT_RS, AA6 MGTAVCC_RS, AA32 MGTVCCAUX_L, AA36 MGTAVTT_L, AB4 MGTAVTT_RS, AB8 MGTVCCAUX_RS, AB34 MGTAVCC_L, AB38 MGTAVTT_L, AC2 MGTAVTT_RS, AC6 MGTAVCC_RS, AC32 MGTAVCC_L, AC36 MGTAVTT_L, AD4 MGTAVTT_RS, AD8 MGTVCCAUX_RS, AD34 MGTAVCC_L, AD38 MGTAVTT_L, AE2 MGTAVTT_RS, AE6 MGTAVCC_RS, AE32 MGTAVCC_L, AE36 MGTAVTT_L, AF4 MGTAVTT_RS, AF8 MGTAVCC_RS, AF34 MGTAVCC_L, AF38 MGTAVTT_L, AG2 MGTAVTT_RS, AG6 MGTAVCC_RS, AG36 MGTAVTT_L, AH4 MGTAVTT_RS, AH8 MGTAVCC_RS, AJ2 MGTAVTT_RS, AJ6 MGTAVCC_RS, AK4 MGTAVTT_RS, AK8 MGTAVCC_RS, AL2 MGTAVTT_RS, AL6 MGTAVCC_RS, AM4 MGTAVTT_RS, AM8 MGTAVCC_RS, AN2 MGTAVTT_RS, AN6 MGTAVCC_RS, AP4 MGTAVTT_RS, AP8 MGTAVCC_RS, AR2 MGTAVTT_RS, AR6 MGTAVCC_RS, AT4 MGTAVTT_RS, AT8 MGTAVCC_RS, AU2 MGTAVTT_RS, AU6 MGTAVCC_RS, AV4 MGTAVTT_RS, AV8 MGTAVCC_RS, B4 MGTAVTT_RN, B8 MGTAVCC_RN, C2 MGTAVTT_RN, C6 MGTAVCC_RN, D4 MGTAVTT_RN, D8 MGTAVCC_RN, E2 MGTAVTT_RN, E6 MGTAVCC_RN, F4 MGTAVTT_RN, F8 MGTAVCC_RN, G2 MGTAVTT_RN, G6 MGTAVCC_RN, H4 MGTAVTT_RN, H8 MGTAVCC_RN, J2 MGTAVTT_RN, J6 MGTAVCC_RN, K4 MGTAVTT_RN, K8 MGTAVCC_RN, L2 MGTAVTT_RN, L6 MGTAVCC_RN, M4 MGTAVTT_RN, M8 MGTAVCC_RN, N2 MGTAVTT_RN, N6 MGTAVCC_RN, N36 MGTAVTT_L, P4 MGTAVTT_RN, P8 MGTAVCC_RN, P34 MGTAVCC_L, P38 MGTAVTT_L, R2 MGTAVTT_RN, R6 MGTAVCC_RN, R32 MGTAVCC_L, R36 MGTAVTT_L, T4 MGTAVTT_RN, T8 MGTVCCAUX_RN, T34 MGTAVCC_L, T38 MGTAVTT_L, U2 MGTAVTT_RN, U6 MGTAVCC_RN, U32 MGTAVCC_L, U36 MGTAVTT_L, V4 MGTAVTT_RS, V8 MGTVCCAUX_RN, V34 MGTAVCC_L, V38 MGTAVTT_L, W2 MGTAVTT_RS, W6 MGTAVCC_RS, W32 MGTVCCAUX_L, W36 MGTAVTT_L, Y4 MGTAVTT_RS, Y34 MGTAVCC_L
part M pins: A2 GND, A5 GND, A6 GND, A9 GND, A10 GND, A11 GND, A21 GND, A31 GND, AA1 GND, AA5 GND, AA13 GND, AA17 GND, AA19 GND, AA21 GND, AA23 GND, AA25 GND, AA27 GND, AA29 GND, AA31 GND, AA33 GND, AA37 GND, AB3 GND, AB7 GND, AB10 GND, AB12 GND, AB14 GND, AB18 GND, AB20 GND, AB22 GND, AB24 GND, AB26 GND, AB28 GND, AB30 GND, AB31 GND, AB35 GND, AB39 GND, AC1 GND, AC5 GND, AC13 GND, AC15 GND, AC17 GND, AC19 GND, AC21 GND, AC23 GND, AC25 GND, AC27 GND, AC29 GND, AC31 GND, AC33 GND, AC37 GND, AD3 GND, AD7 GND, AD12 GND, AD22 GND, AD30 GND, AD31 GND, AD35 GND, AD39 GND, AE1 GND, AE5 GND, AE9 GND, AE10 GND, AE19 GND, AE29 GND, AE31 GND, AE33 GND, AE37 GND, AF3 GND, AF7 GND, AF16 GND, AF26 GND, AF31 GND, AF35 GND, AF39 GND, AG1 GND, AG5 GND, AG9 GND, AG10 GND, AG13 GND, AG23 GND, AG31 GND, AG32 GND, AG33 GND, AG37 GND, AH3 GND, AH7 GND, AH11 GND, AH20 GND, AH30 GND, AH33 GND, AH34 GND, AH35 GND, AH38 GND, AH39 GND, AJ1 GND, AJ5 GND, AJ9 GND, AJ10 GND, AJ11 GND, AJ17 GND, AJ27 GND, AJ35 GND, AJ36 GND, AJ37 GND, AJ38 GND, AK3 GND, AK7 GND, AK11 GND, AK14 GND, AK24 GND, AK34 GND, AL1 GND, AL5 GND, AL9 GND, AL10 GND, AL11 GND, AL21 GND, AL31 GND, AM3 GND, AM7 GND, AM11 GND, AM18 GND, AM28 GND, AM38 GND, AN1 GND, AN5 GND, AN9 GND, AN10 GND, AN11 GND, AN15 GND, AN25 GND, AN35 GND, AP3 GND, AP7 GND, AP11 GND, AP12 GND, AP22 GND, AP32 GND, AR1 GND, AR5 GND, AR9 GND, AR10 GND, AR11 GND, AR19 GND, AR29 GND, AR39 GND, AT3 GND, AT7 GND, AT11 GND, AT16 GND, AT26 GND, AT36 GND, AU1 GND, AU5 GND, AU9 GND, AU10 GND, AU11 GND, AU13 GND, AU23 GND, AU33 GND, AV3 GND, AV7 GND, AV11 GND, AV20 GND, AV30 GND, AW2 GND, AW5 GND, AW6 GND, AW9 GND, AW10 GND, AW11 GND, AW17 GND, AW27 GND, AW37 GND, B3 GND, B7 GND, B11 GND, B18 GND, B28 GND, B38 GND, C1 GND, C5 GND, C9 GND, C10 GND, C11 GND, C15 GND, C25 GND, C35 GND, D3 GND, D7 GND, D11 GND, D12 GND, D22 GND, D32 GND, E1 GND, E5 GND, E9 GND, E10 GND, E11 GND, E19 GND, E29 GND, E39 GND, F3 GND, F7 GND, F11 GND, F16 GND, F26 GND, F36 GND, G1 GND, G5 GND, G9 GND, G10 GND, G11 GND, G13 GND, G23 GND, G33 GND, H3 GND, H7 GND, H11 GND, H20 GND, H30 GND, J1 GND, J5 GND, J9 GND, J10 GND, J11 GND, J17 GND, J27 GND, J37 GND, K3 GND, K7 GND, K11 GND, K14 GND, K24 GND, K34 GND, L1 GND, L5 GND, L9 GND, L10 GND, L11 GND, L21 GND, L31 GND, M3 GND, M7 GND, M11 GND, M18 GND, M28 GND, M33 GND, M34 GND, M35 GND, M36 GND, M37 GND, M38 GND, M39 GND, N1 GND, N5 GND, N9 GND, N10 GND, N11 GND, N15 GND, N25 GND, N31 GND, N32 GND, N33 GND, N37 GND, P3 GND, P7 GND, P12 GND, P22 GND, P31 GND, P35 GND, P39 GND, R1 GND, R5 GND, R9 GND, R10 GND, R19 GND, R29 GND, R31 GND, R33 GND, R37 GND, T3 GND, T7 GND, T12 GND, T14 GND, T16 GND, T26 GND, T31 GND, T35 GND, T39 GND, U1 GND, U5 GND, U13 GND, U15 GND
part A text: XCKU115-A1517; Bank0
part B text: XCKU115-A1517; Bank24; Bank25
part C text: XCKU115-A1517; Bank44; Bank45
part D text: XCKU115-A1517; Bank46; Bank47
part E text: XCKU115-A1517; Bank48; Bank66
part F text: XCKU115-A1517; Bank67; Bank68
part G text: XCKU115-A1517; Bank64 (HR); Bank65 (HR)
part H text: XCKU115-A1517; MGT_L
part I text: XCKU115-A1517; MGT_RS
part J text: XCKU115-A1517; MGT_RN; 229 & 230 DOESN'T EXIST IN : KU060; 231 & 232 DOESN'T EXIST IN : KU060
part K text: XCKU115-A1517; POWER
part L text: XCKU115-A1517; POWER MGT
part M text: XCKU115-A1517; GND-PINS

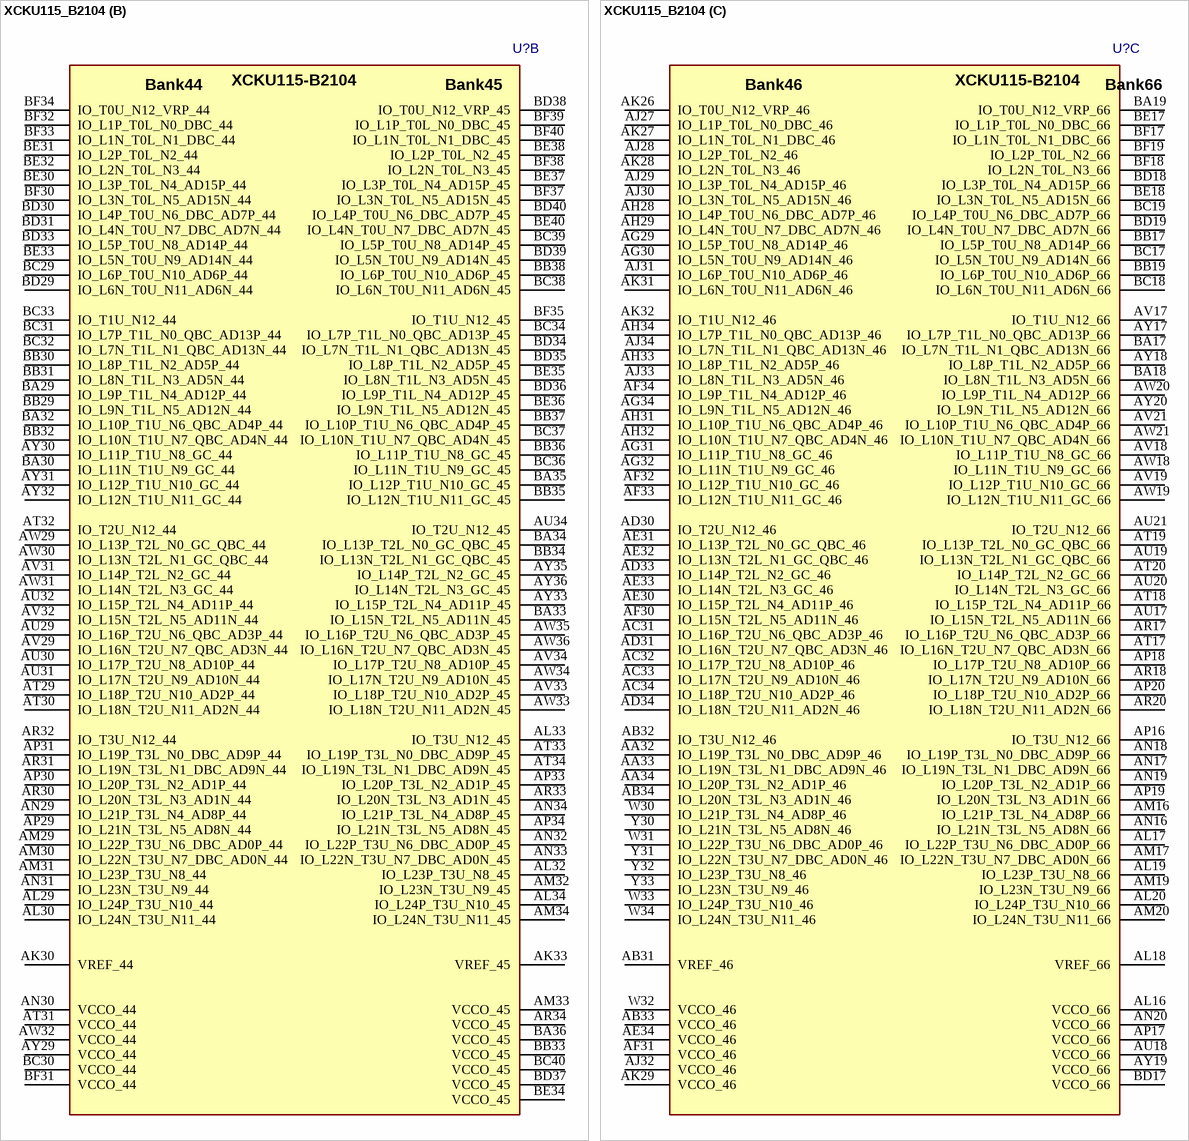
[diagram p15: symbol XCKU115_B2104]

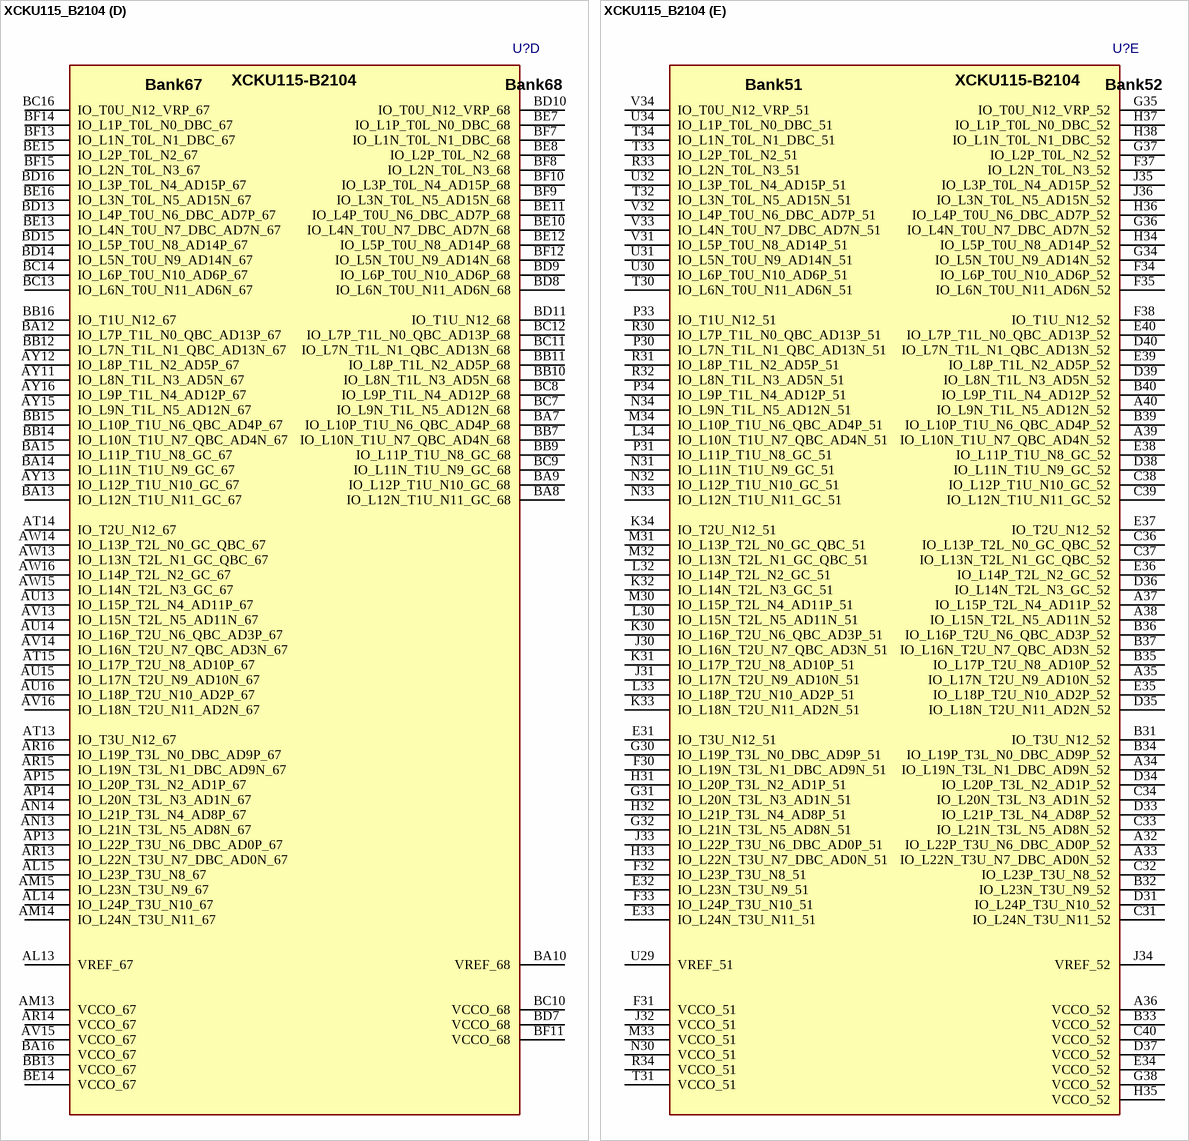
[diagram p16: symbol XCKU115_B2104]

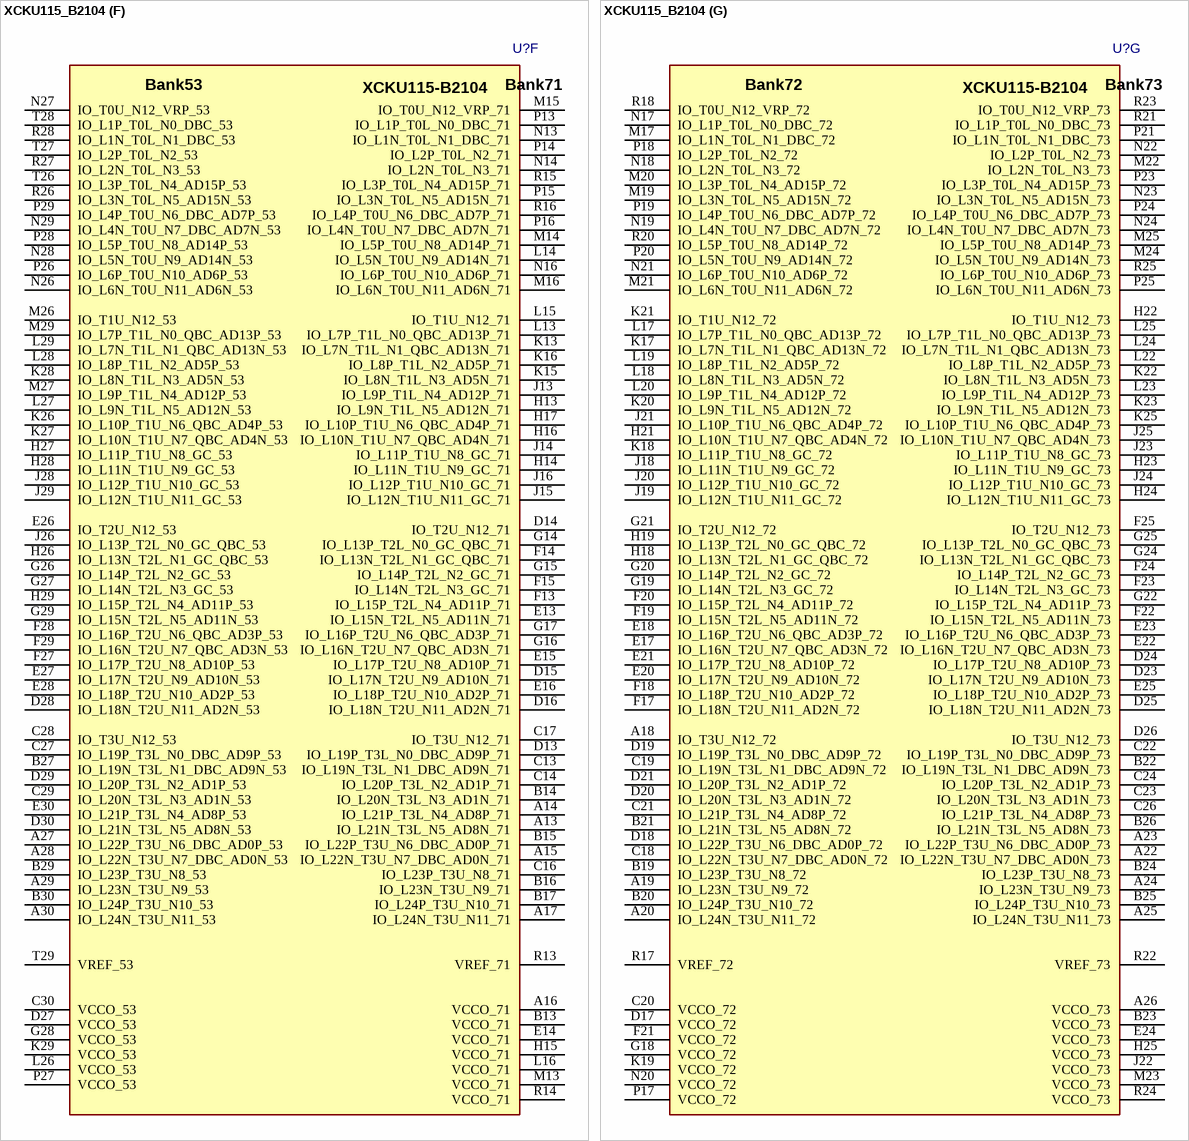
[diagram p17: symbol XCKU115_B2104]

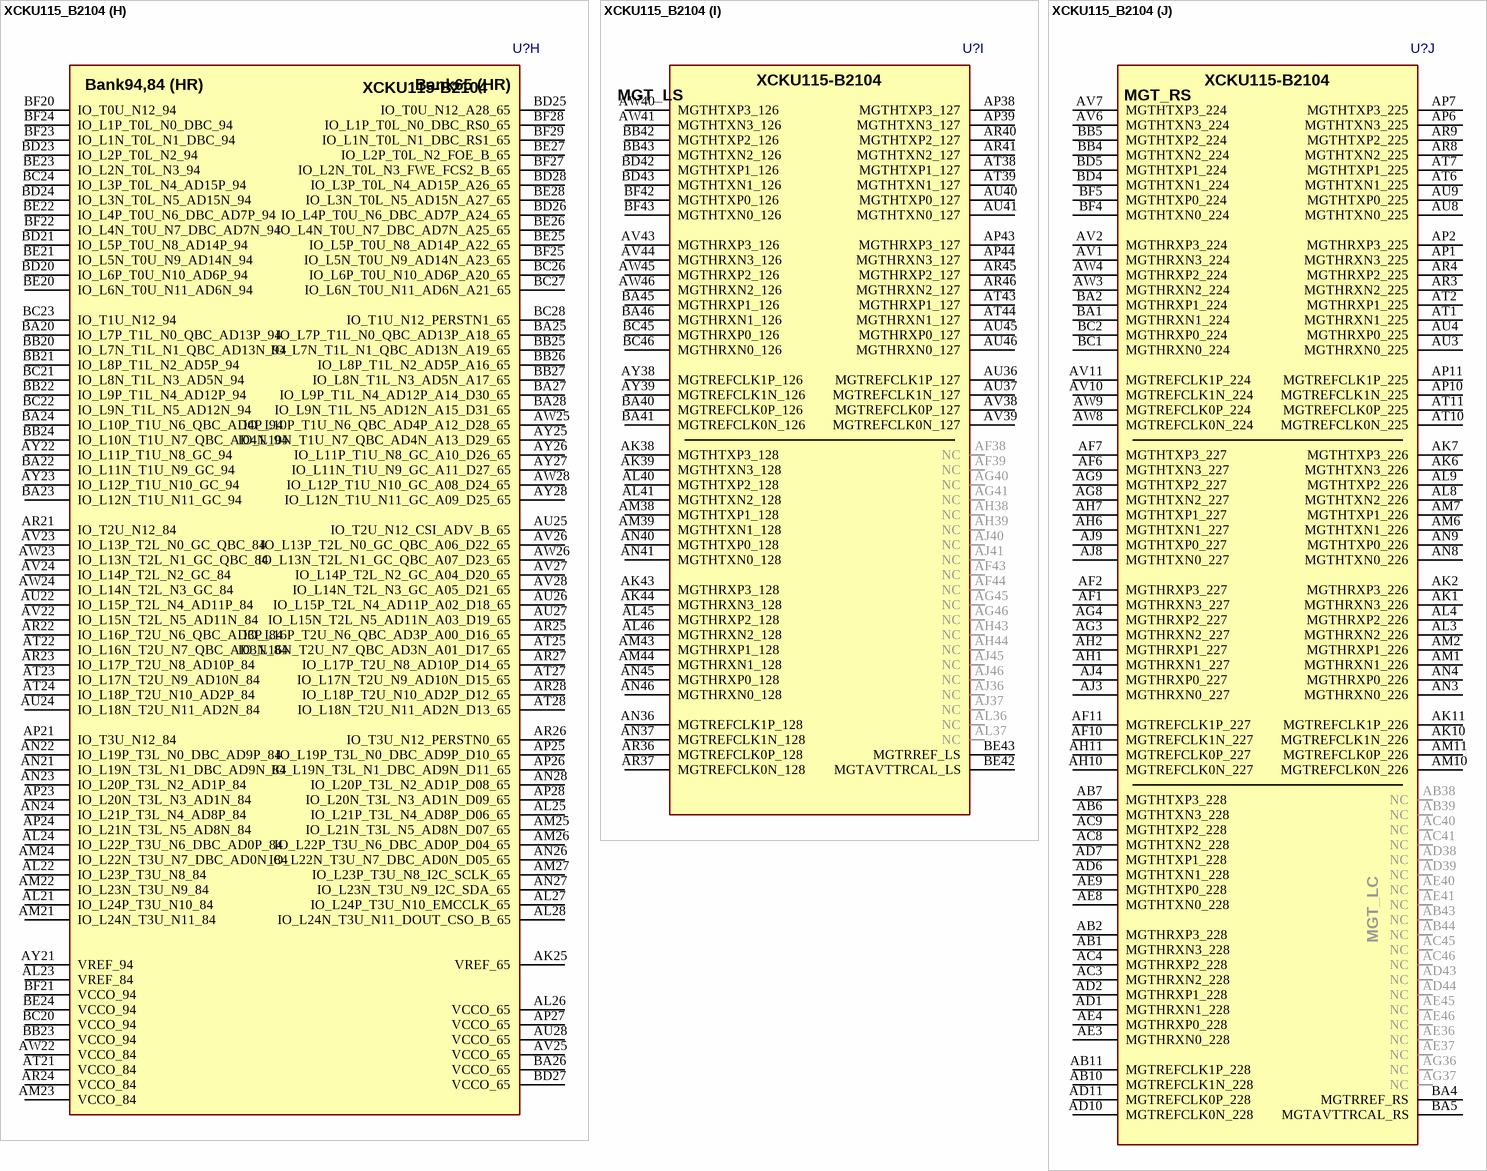
[diagram p18: symbol XCKU115_B2104]

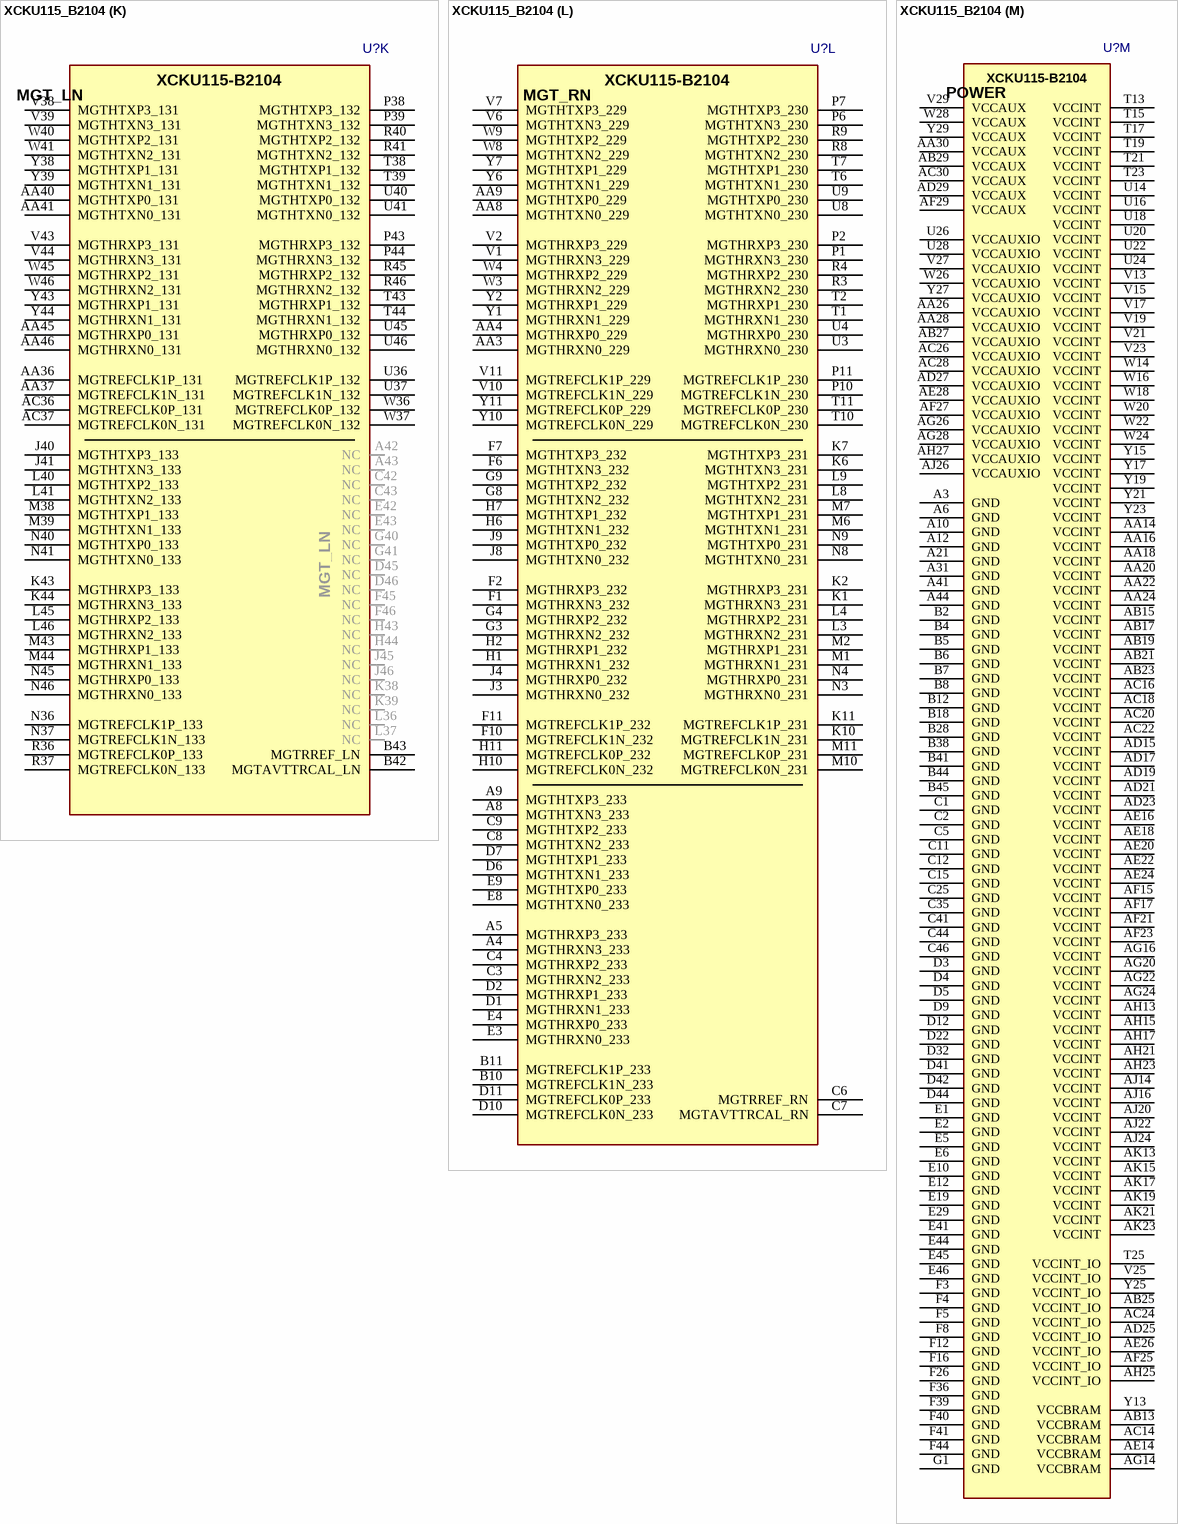
[diagram p19: symbol XCKU115_B2104]

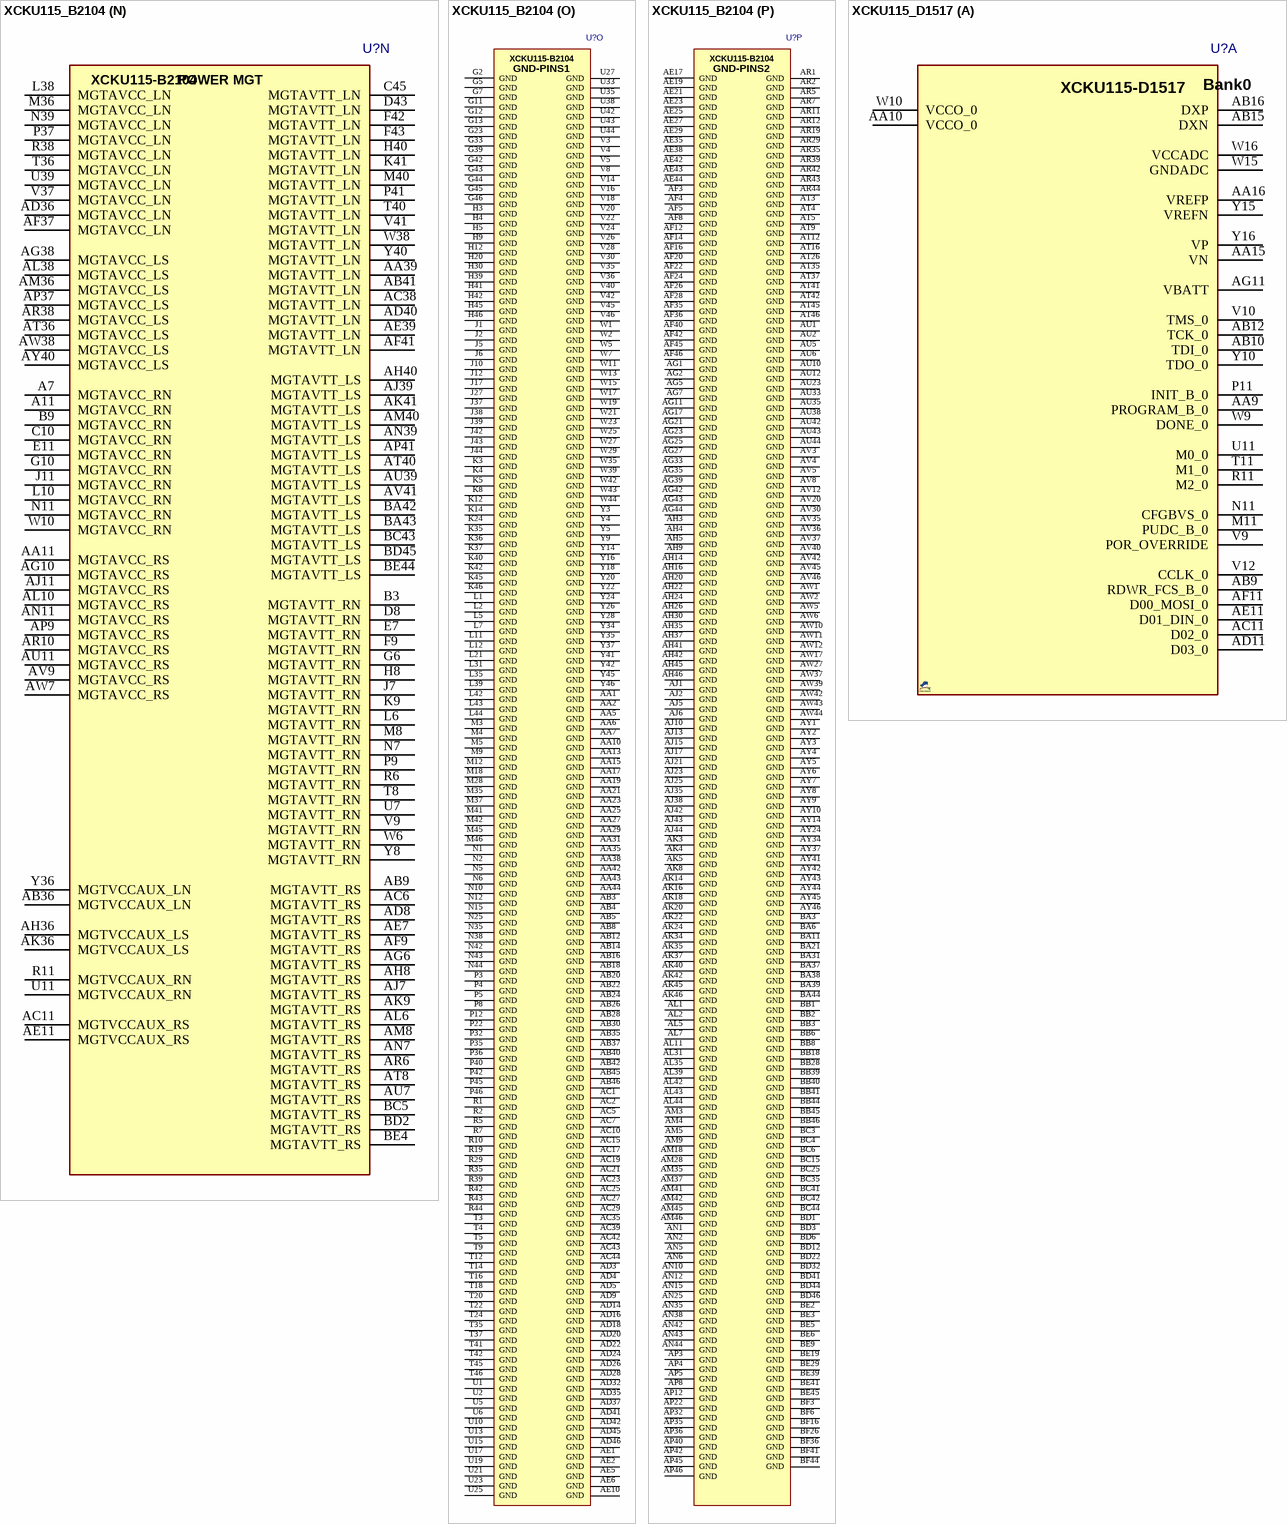
[diagram p20: symbols XCKU115_B2104 to XCKU115_D1517]